# Altium footprint library Arduino_pcb.PcbLib: 28 footprints (part 2 of 2)
Each footprint in its own frame and in the unit in brackets; x right, y up, seen from the top. Pads: shape width x height; smd on the part's side, far side on the other; paste and mask are expansions set on the pad; w line width, h text height; cw(c..) or ccw(c..) is an arc to the next point about the centre after c.
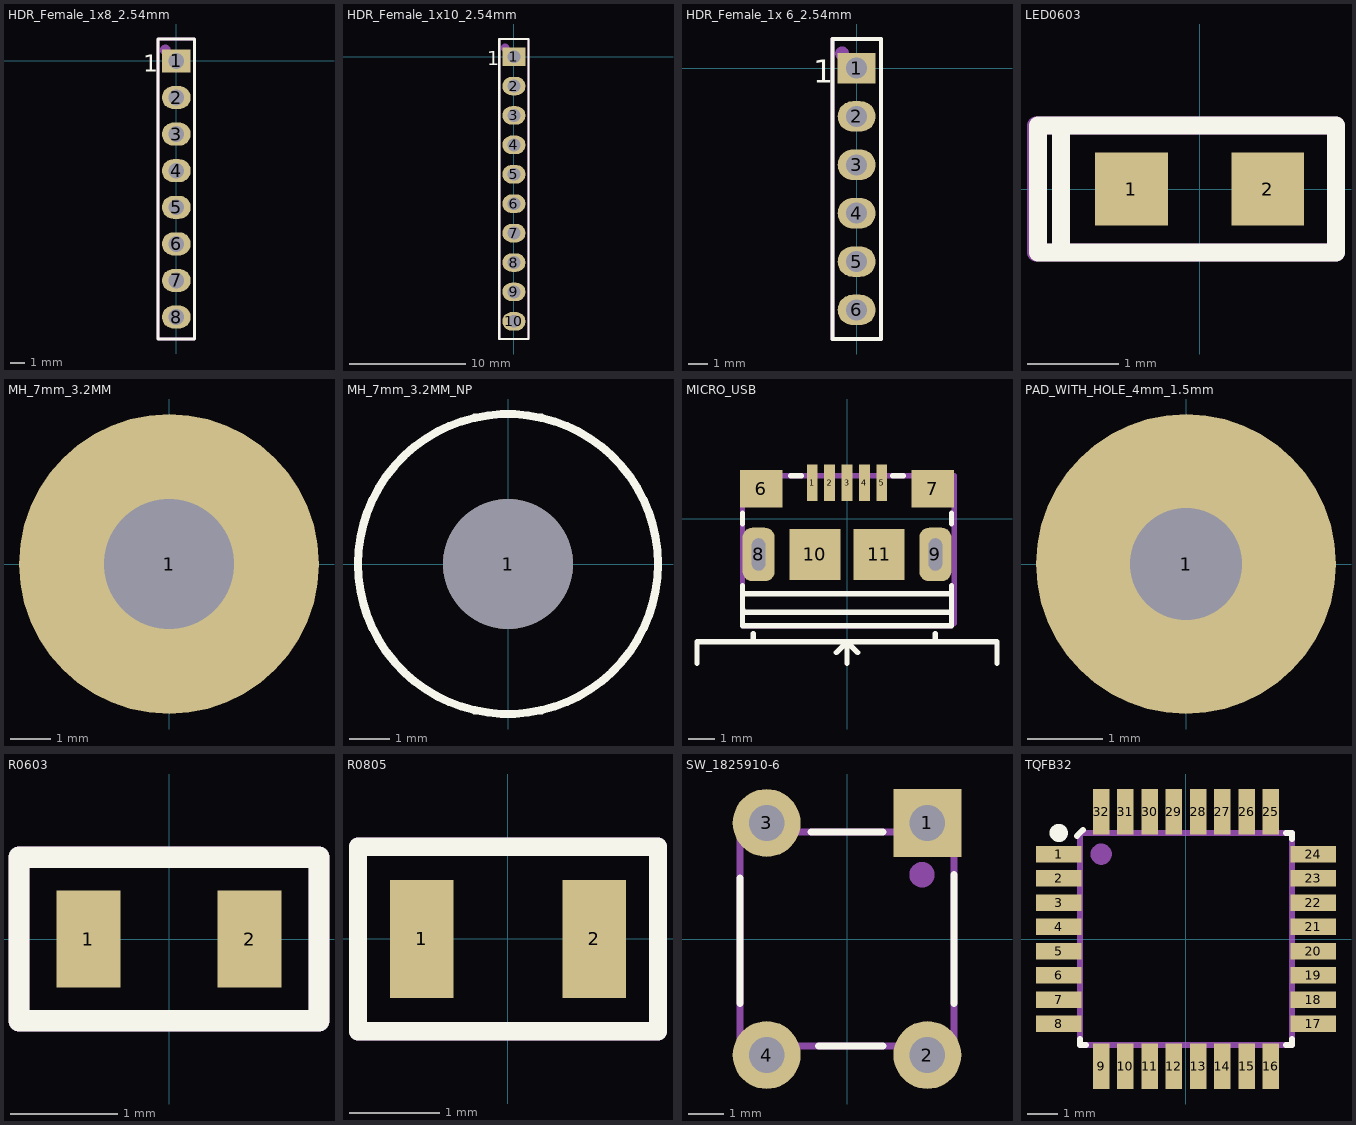
[diagram p1: the footprints below, top view; thin cyan lines are the x and y axes]

## HDR_Female_1x8_2.54mm [mm]
pads (8):
  rect 2x1.6 / inner rect 2.5x1.6 / far side rect 2x1.6 hole 1.1: 1(0,0)
  oval 2x1.6 / inner oval 2.5x1.6 / far side oval 2x1.6 hole 1.1: 2(0,-2.54) 3(0,-5.08) 4(0,-7.62) 5(0,-10.16) 6(0,-12.7) 7(0,-15.24) 8(0,-17.78)
Top Overlay:
  lines w0.2: -1.27,-19.304 -1.27,1.524 1.27,1.524 1.27,-19.304 -1.27,-19.304
  text "1" at -2.286,-0.762 h1.2
Mechanical 29 (Mech29):
  circle w0.381: c-0.762,0.762 r0.178
  lines w0.2: -1.27,-19.304 1.27,-19.304 1.27,1.524 -1.27,1.524 -1.27,-19.304
  text ".Designator" at 0.508,-17.272 h1.2
3D body "m20-7820842_asm.stp": height 8.51, standoff -2.99, extent -1.25,-19.25 1.25,1.47

## HDR_Female_1x10_2.54mm [mm]
pads (10):
  rect 2x1.6 / inner rect 2.5x1.6 / far side rect 2x1.6 hole 1.1: 1(0,0)
  oval 2x1.6 / inner oval 2.5x1.6 / far side oval 2x1.6 hole 1.1: 2(0,-2.54) 3(0,-5.08) 4(0,-7.62) 5(0,-10.16) 6(0,-12.7) 7(0,-15.24) 8(0,-17.78) 9(0,-20.32) 10(0,-22.86)
Top Overlay:
  lines w0.2: -1.27,-24.384 -1.27,1.524 1.27,1.524 1.27,-24.384 -1.27,-24.384
  text "1" at -2.286,-0.762 h1.2
Mechanical 29 (Mech29):
  circle w0.381: c-0.762,0.762 r0.178
  lines w0.2: -1.27,-24.384 1.27,-24.384 1.27,1.524 -1.27,1.524 -1.27,-24.384
  text ".Designator" at 0.508,-17.272 h1.2
3D body "m20-7821046_asm.stp": height 8.51, standoff -2.99, extent -1.27,-24.33 1.23,1.47

## HDR_Female_1x 6_2.54mm [mm]
pads (6):
  rect 2x1.6 / inner rect 2.5x1.6 / far side rect 2x1.6 hole 1.1: 1(0,0)
  oval 2x1.6 / inner oval 2.5x1.6 / far side oval 2x1.6 hole 1.1: 2(0,-2.54) 3(0,-5.08) 4(0,-7.62) 5(0,-10.16) 6(0,-12.7)
Top Overlay:
  lines w0.2: -1.27,-14.224 1.27,-14.224 1.27,1.524 -1.27,1.524 -1.27,-14.224
  text "1" at -2.286,-0.762 h1.2
Mechanical 29 (Mech29):
  circle w0.381: c-0.762,0.762 r0.178
  lines w0.2: -1.27,-14.224 -1.27,1.524 1.27,1.524 1.27,-14.224 -1.27,-14.224
  text ".Designator" at 0.508,-11.43 h1.2
3D body "m20-7820646_asm.stp": height 8.51, standoff -2.99, extent -1.23,-14.17 1.27,1.47

## LED0603 [mm]
pads (2):
  rect 0.8x0.8 smd: 1(-0.75,0) 2(0.75,0)
Top Overlay:
  lines w0.2: -1.524,-0.7 1.5,-0.7 1.5,0.7 -1.524,0.7 ; -1.524,-0.7 -1.524,0.7 ; -1.524,-0.7 -1.778,-0.7 -1.778,0.7 -1.524,0.7
Mechanical 29 (Mech29):
  lines w0.2: -1.8,-0.7 -1.8,0.7 1.5,0.7 1.5,-0.7 -1.8,-0.7
  text ".Designator" at -1.3,-0.3 h0.6
3D body: height 0.66, standoff 0.5, extent -0.425,-0.25 0.025,0.25
3D body "User Library-LED SMD 0603 super red.step": height 0.65, standoff 0, extent -0.825,-0.4 0.875,0.4

## MH_7mm_3.2MM [mm]
pads (1):
  round 7.4 hole 3.2: 1(0,0)

## MH_7mm_3.2MM_NP [mm]
pads (1):
  round 3.2 hole 3.2 unplated: 1(0,0)
Top Overlay:
  circle w0.2: c0,0 r3.7

## MICRO_USB [mm]
pads (11):
  rect 0.4x1.35 smd mask+0.05: 1(-1.3,1.338) 2(-0.65,1.338) 3(0,1.338) 4(0.65,1.338) 5(1.3,1.338)
  rect 1.6x1.4 smd: 6(-3.2,1.112) 7(3.2,1.112)
  rrect60% 1.2x2 hole 0.5 slot 1.2 at 90 deg: 8(-3.3,-1.338) 9(3.3,-1.338)
  rect 1.9x1.9 smd: 10(-1.2,-1.338) 11(1.2,-1.338)
Top Overlay:
  lines w0.2: -5.6,-5.4 -5.6,-4.6 -3.9,-4.6 5.6,-4.6 5.6,-5.4 ; -3.9,-3.4 -3.8,-3.5 3.9,-3.5 ; -3.9,-2.8 3.9,-2.8 ; -3.9,-2.5 -3.9,-4 3.9,-4 3.9,-2.5 ; -3.9,-0.2 -3.9,0.2 ; -3.5,-4.6 -3.5,-4.3 ; -2.1,1.6 -1.7,1.6 ; -0.4,-5 0,-4.6 ; 0,-5.4 0,-4.6 ; 0.4,-5 0,-4.6 ; 1.7,1.6 2.1,1.6 ; 3.3,-4.6 3.3,-4.3 ; 3.9,-0.2 3.9,0.2
Mechanical 29 (Mech29):
  lines w0.2: -3.9,1.5 -3.9,-4 3.9,-4 4,-3.9 4,1.6 -3.9,1.6
  text ".Designator" at -2.3,-1.5 h1.2
3D body "10118193-0001lfc.stp": height 2.83, standoff -0.77, extent -3.928,-4.062 3.928,1.598

## PAD_WITH_HOLE_4mm_1.5mm [mm]
pads (1):
  round 4 hole 1.5: 1(0,0)

## R0603 [mm]
pads (2):
  rect 0.6x0.9 smd: 1(-0.75,0) 2(0.75,0)
Top Overlay:
  lines w0.2: -1.397,-0.762 -1.397,0.762 1.397,0.762 1.397,-0.762 -1.397,-0.762
Mechanical 29 (Mech29):
  lines w0.2: -1.397,-0.762 -1.397,0.762 1.397,0.762 1.397,-0.762 -1.397,-0.762
  text ".Designator" at -0.889,-0.381 h0.6
3D body "R0603.step": height 0.85, standoff 0.01, extent -0.8,-0.4 0.8,0.4

## R0805 [mm]
pads (2):
  rect 0.7x1.3 smd: 1(-0.95,0) 2(0.95,0)
Top Overlay:
  lines w0.2: -1.651,-1.016 -1.651,1.016 1.651,1.016 1.651,-1.016 -1.651,-1.016
Mechanical 29 (Mech29):
  lines w0.2: -1.651,-1.016 1.651,-1.016 1.651,1.016 -1.651,1.016 -1.651,-1.016
  text ".Designator" at -1.27,-0.508 h0.6
3D body "RESC2012X60N EIA 0805.step": height 0.61, standoff 0.01, extent -1,-0.6 1,0.6

## SW_1825910-6 [mm]
pads (4):
  rect 1.9x1.9 hole 1: 1(2.25,3.25)
  round 1.9 hole 1: 2(2.25,-3.25) 3(-2.25,3.25) 4(-2.25,-3.25)
Top Overlay:
  lines w0.2: -3,-1.8 -3,1.7 ; -1,3 1,3 ; -0.8,-3 1,-3 ; 3,-1.8 3,1.8
Mechanical 29 (Mech29):
  circle w0.508: c2.1,1.8 r0.1
  lines w0.2: -3,-3 3,-3 3,3 -3,3 -3,-3
  text ".Designator" at 0.5,-1.3 h1.2
3D body "User Library-FSM4JLH(1825910-5).step": height 5.01, standoff -3.5, extent -2.995,-3.898 2.995,3.9

## TQFB32 [mm]
pads (32):
  rect 1.5x0.55 smd mask+0.06: 1(-4.2,2.8) 2(-4.2,2) 3(-4.2,1.2) 4(-4.2,0.4) 5(-4.2,-0.4) 6(-4.2,-1.2) 7(-4.2,-2) 8(-4.2,-2.8) 17(4.2,-2.8) 18(4.2,-2) 19(4.2,-1.2) 20(4.2,-0.4) 21(4.2,0.4) 22(4.2,1.2) 23(4.2,2) 24(4.2,2.8)
  rect 0.55x1.5 smd mask+0.06: 9(-2.8,-4.2) 10(-2,-4.2) 11(-1.2,-4.2) 12(-0.4,-4.2) 13(0.4,-4.2) 14(1.2,-4.2) 15(2,-4.2) 16(2.8,-4.2) 25(2.8,4.2) 26(2,4.2) 27(1.2,4.2) 28(0.4,4.2) 29(-0.4,4.2) 30(-1.2,4.2) 31(-2,4.2) 32(-2.8,4.2)
Top Overlay:
  circle w0.4: c-4.2,3.5 r0.1
  lines w0.2: -3.6,3.4 -3.4,3.6 ; -3.5,-3.3 -3.5,-3.5 -3.3,-3.5 ; 3.3,-3.5 3.5,-3.5 3.5,-3.3 ; 3.3,3.5 3.5,3.5 3.5,3.3
Mechanical 29 (Mech29):
  circle w0.5: c-2.8,2.8 r0.1
  lines w0.2: -3.5,-3.5 3.5,-3.5 3.5,3.5 -3.5,3.5 -3.5,-3.5
  text ".Designator" at -1.6,-0.5 h1.2
3D body "User Library-tqfp32.step": height 1.2, standoff 0, extent -4.599,-4.599 4.599,4.6